# EAGLE library part MC33660 (library personal)
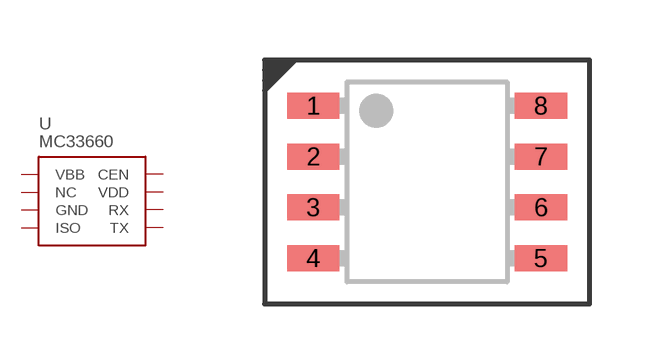
[diagram p10: symbol with the pads of P-PG-DSO-8; footprint P-PG-DSO-8]

Designator prefix U

## MC33660  [P-PG-DSO-8]
1  VBB
2  NC
3  GND
4  ISO
5  TX
6  RX
7  VDD
8  CEN

## Footprint P-PG-DSO-8 (pad centres in mm)
smd 1.31 x 0.65: 1 -2.845,1.905; 2 -2.845,0.635; 3 -2.845,-0.635; 4 -2.845,-1.905; 5 2.845,-1.905; 6 2.845,-0.635; 7 2.845,0.635; 8 2.845,1.905